# EAGLE library part 1554ИР23 (library std-logic-1554series)
АЕЯР.431200.182-12 ТУ 1554ИР23 - Восьмиразрядный регистр, управляемый по фронту, с параллельным вводом-выводом данных, с тремя состояниями на выходе. Изготовитель: ОАО "ИНТЕГРАЛ", г. Минск, р. Беларусь. Технические условия (ТБМ): АЕЯР.431200.182-12 ТУ Технические условия (не ТБМ): АЕЯР.431200.093-03 ТУ
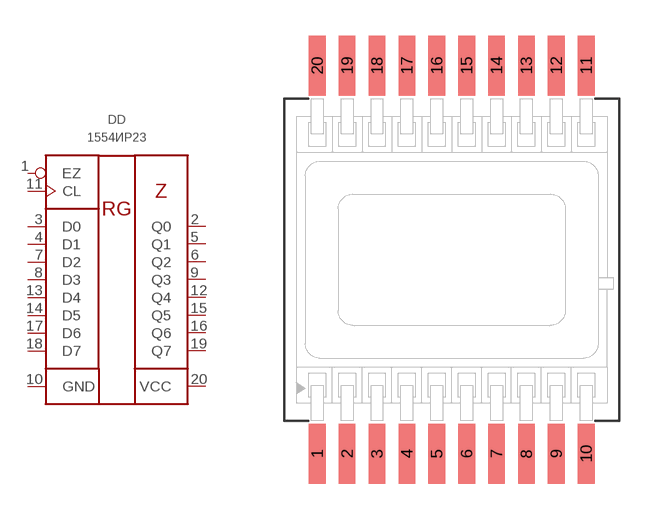
[diagram p38: symbol with the pads of 4153.20-6; footprint 4153.20-6]

Designator prefix DD

## 1554ИР23ТБМ  [4153.20-6]
1  EZ  in
2  Q0  out
3  D0  in
4  D1  in
5  Q1  out
6  Q2  out
7  D2  in
8  D3  in
9  Q3  out
10  GND  pwr
11  CL  in
12  Q4  out
13  D4  in
14  D5  in
15  Q5  out
16  Q6  out
17  D6  in
18  D7  in
19  Q7  out
20  VCC  pwr

## Footprint 4153.20-6 (pad centres in mm)
smd 0.7 x 2.5: 1 -5.625,-8.125; 2 -4.375,-8.125; 3 -3.125,-8.125; 4 -1.875,-8.125; 5 -0.625,-8.125; 6 0.625,-8.125; 7 1.875,-8.125; 8 3.125,-8.125; 9 4.375,-8.125; 10 5.625,-8.125; 11 5.625,8.125; 12 4.375,8.125; 13 3.125,8.125; 14 1.875,8.125; 15 0.625,8.125; 16 -0.625,8.125; 17 -1.875,8.125; 18 -3.125,8.125; 19 -4.375,8.125; 20 -5.625,8.125